# Altium footprint library PLT10HH.PcbLib: 1 footprints
Each footprint in its own frame and in the unit in brackets; x right, y up, seen from the top. Pads: shape width x height; smd on the part's side, far side on the other; paste and mask are expansions set on the pad; w line width, h text height; cw(c..) or ccw(c..) is an arc to the next point about the centre after c.
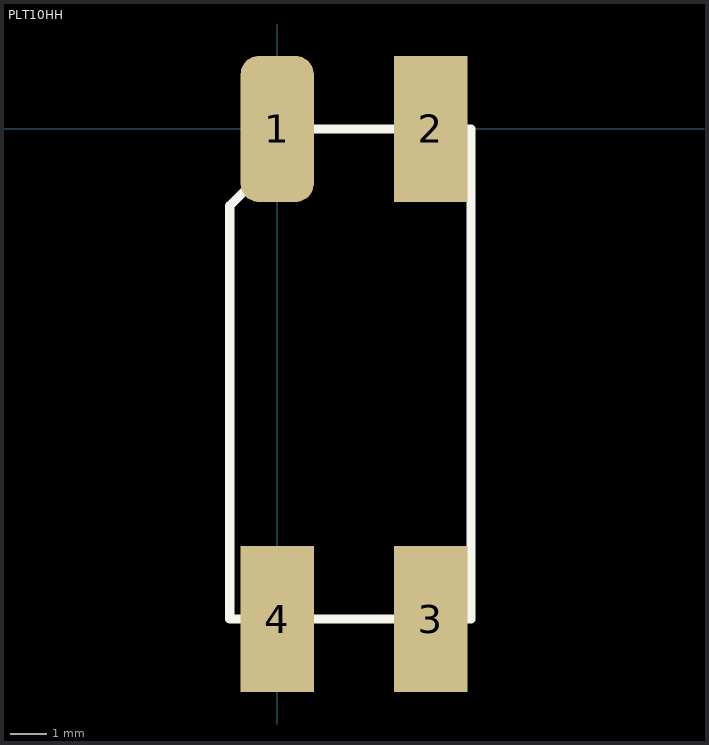
[diagram p0: the footprint, top view; thin cyan lines are the x and y axes]

## PLT10HH [mm] "Coupled Inductor"
pads (4):
  rrect50% 2x4 smd: 1(0,0)
  rect 2x4 smd: 2(4.2,0) 3(4.2,-13.4) 4(0,-13.4)
Top Overlay:
  lines w0.254: -1.3,-13.4 -1.3,-2.1 0.8,0 5.3,0 5.3,-13.4 -1.3,-13.4
3D body: height 9.1, standoff 0, extent -1.3,-13.4 5.3,0